# Altium schematic symbol library PULLUP_SWITCH.SchLib: 1 symbol
Pins are listed as number, name and electrical type; pins without a type are passive.

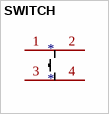
[diagram p0: symbol SWITCH]

## SWITCH
designator *
TS-1095S-A2B3-C2D1
footprint PCBComponent_1 (SW-SMD_4P-L6.0-W6.0-P4.50-LS8.5)
pins: 1, 2, 3, 4